# Altium schematic symbol library CN 6POS JST ZE SMT.Schlib: 1 symbol
Pins are listed as number, name and electrical type; pins without a type are passive.

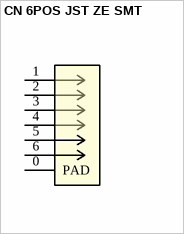
[diagram p0: symbol CN 6POS JST ZE SMT]

## CN 6POS JST ZE SMT
designator J?, comment BM06B-ZESS-TBT(LF)(SN)
CONN HEADER VERT SMD 6POS ZE
footprint JST ZE SMT 6POS (6 POS HDR JST ZE)
pins: 0 PAD, 1, 2, 3, 4, 5, 6